# Altium footprint library STM32F103RET6.PcbLib: 24 footprints (part 2 of 2)
Each footprint in its own frame and in the unit in brackets; x right, y up, seen from the top. Pads: shape width x height; smd on the part's side, far side on the other; paste and mask are expansions set on the pad; w line width, h text height; cw(c..) or ccw(c..) is an arc to the next point about the centre after c.
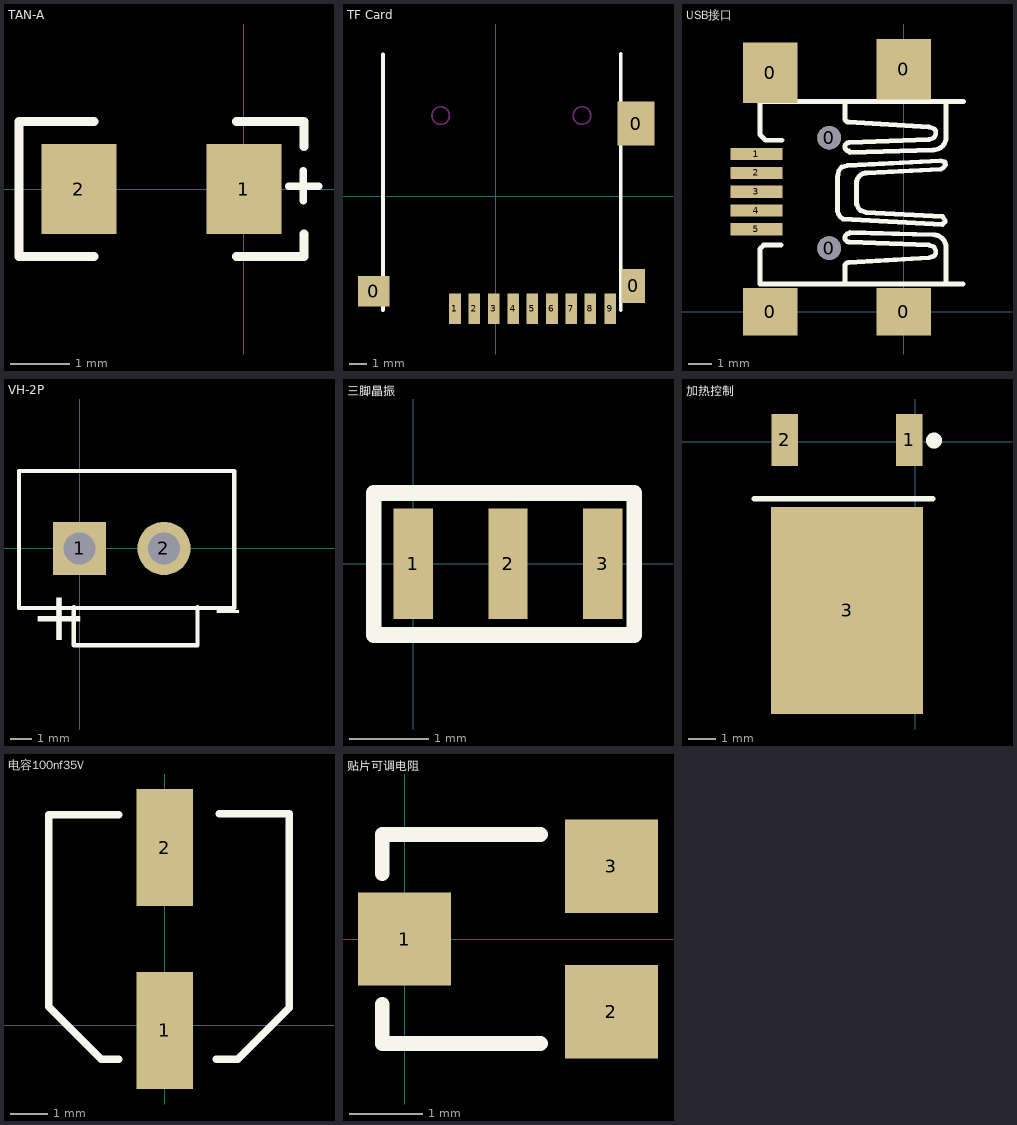
[diagram p1: the footprints below, top view; thin cyan lines are the x and y axes]

## TAN-A [mil]
pads (2):
  rect 50x60 smd: 1(0,0) 2(-110,0)
Top Overlay:
  lines w5: 30,1.81 50,1.81 ; 39.37,-7.87 39.37,12.13
  lines w6: -100,-45 -150,-45 -150,45 -100,45 ; -5,-45 40,-45 40,-30 ; -5,45 40,45 40,28.19

## TF Card [mil]
pads (12):
  rect 70x68 smd: 0(-272.8,-212.78)
  rect 52x76 smd: 0(308.2,-200.78)
  rect 82x98.43 smd: 0(314.2,162.22)
  rect 26x68 smd: 1(-90.8,-251.78) 2(-47.8,-251.78) 3(-3.8,-251.78) 4(39.2,-251.78) 5(82.2,-251.78) 6(126.2,-251.78) 7(169.2,-251.78) 8(212.2,-251.78) 9(256.2,-251.78)
Top Overlay:
  lines w8: -251.8,-254.78 -251.8,317.22 ; 280.2,-254.78 280.2,318.22
Keep-Out Layer:
  circle w3.94: c-122.8,180.5 r19.68
  circle w3.94: c193.2,180.5 r19.68

## USB接口 [mil]
pads (11):
  rect 90x78.74 smd: 0(-220,0) 0(0,0)
  rect 90x100 smd: 0(-220,394) 0(0,400)
  round 39 hole 39: 0(-123,105) 0(-123,287)
  rect 86x20 smd: 1(-243,260) 2(-243,229) 3(-243,198) 4(-243,167) 5(-243,136)
Top Overlay:
  lines w8: -202,110 -231,110 -237,104 -237,46 98,46 ; -201,283 -228,283 -237,292 -237,347 99,347 ; -97,50 -97,75 cw(c-91,75) -91,81 42,89 50,92 53,96 53,101 50,107 42,110 -90,115 cw(c-90,122) -90,129 ; -97,344 -97,319 ccw(c-91,319) -91,313 42,305 50,302 53,298 53,293 50,287 42,284 -90,279 ccw(c-90,272) -90,265 ; -89,131 49,127 cw(c49,106) 70,106 70,49 ; -89,263 49,267 ccw(c49,288) 70,288 70,345 ; -78,177 -78,212 cw(c-61,212) -61,229 61,235 66,238 69,242 68,247 61,249 -93,241 -102,239 -107,233 -109,222 -109,165 -108,162 -105,157 -100,153 64,144 68,148 68,151 64,157 -62,164 -71,167 -74,170 -77,177

## VH-2P [mm]
pads (2):
  rect 2.5x2.5 hole 1.5: 1(0,0)
  round 2.5 hole 1.5: 2(3.962,0)
Top Overlay:
  lines w0.2: -0.279,-2.769 -0.279,-4.547 5.537,-4.547 5.537,-2.769 ; -2.845,-2.794 -2.845,3.632 7.264,3.632 7.264,-2.794 -2.845,-2.794
  text "-" at 6.241,-4.918 h5
  text "+" at -2.287,-5.096 h4

## 三脚晶振 [mm]
pads (3):
  rect 0.5x1.4 smd: 1(0,0.006) 2(1.2,0.006) 3(2.4,0.006)
Top Overlay:
  lines w0.2: -0.5,-0.9 -0.5,0.9 2.8,0.9 2.8,-0.9 -0.5,-0.9

## 加热控制 [mil]
pads (3):
  rect 38x75 smd mask+2: 1(-9.09,2.42) 2(-189.09,2.42)
  rect 220x300 smd mask+2: 3(-99.09,-244.58)
Top Overlay:
  circle w15: c26.91,1.42 r4
  lines w8: -233.09,-82.58 24.91,-82.58

## 电容100nf35V [mil]
pads (2):
  rect 60x125 smd mask+2: 1(-0.08,-5.62) 2(-0.08,189.38)
Top Overlay:
  lines w8: -49.08,-36.62 -68.08,-36.62 -124.08,19.38 -124.08,224.38 -49.08,224.38 ; 54.92,-36.62 77.92,-36.62 132.92,18.38 132.92,225.38 57.92,225.38

## 贴片可调电阻 [mil]
pads (3):
  rect 50x50 smd: 1(0,0) 2(111,-39) 3(111,39)
Top Overlay:
  lines w8: -12,-35 -12,-56 73,-56 ; -12,35 -12,56 73,56